# Altium footprint library FPGA_PMU_lib.PcbLib: 15 footprints
Each footprint in its own frame and in the unit in brackets; x right, y up, seen from the top. Pads: shape width x height; smd on the part's side, far side on the other; paste and mask are expansions set on the pad; w line width, h text height; cw(c..) or ccw(c..) is an arc to the next point about the centre after c.
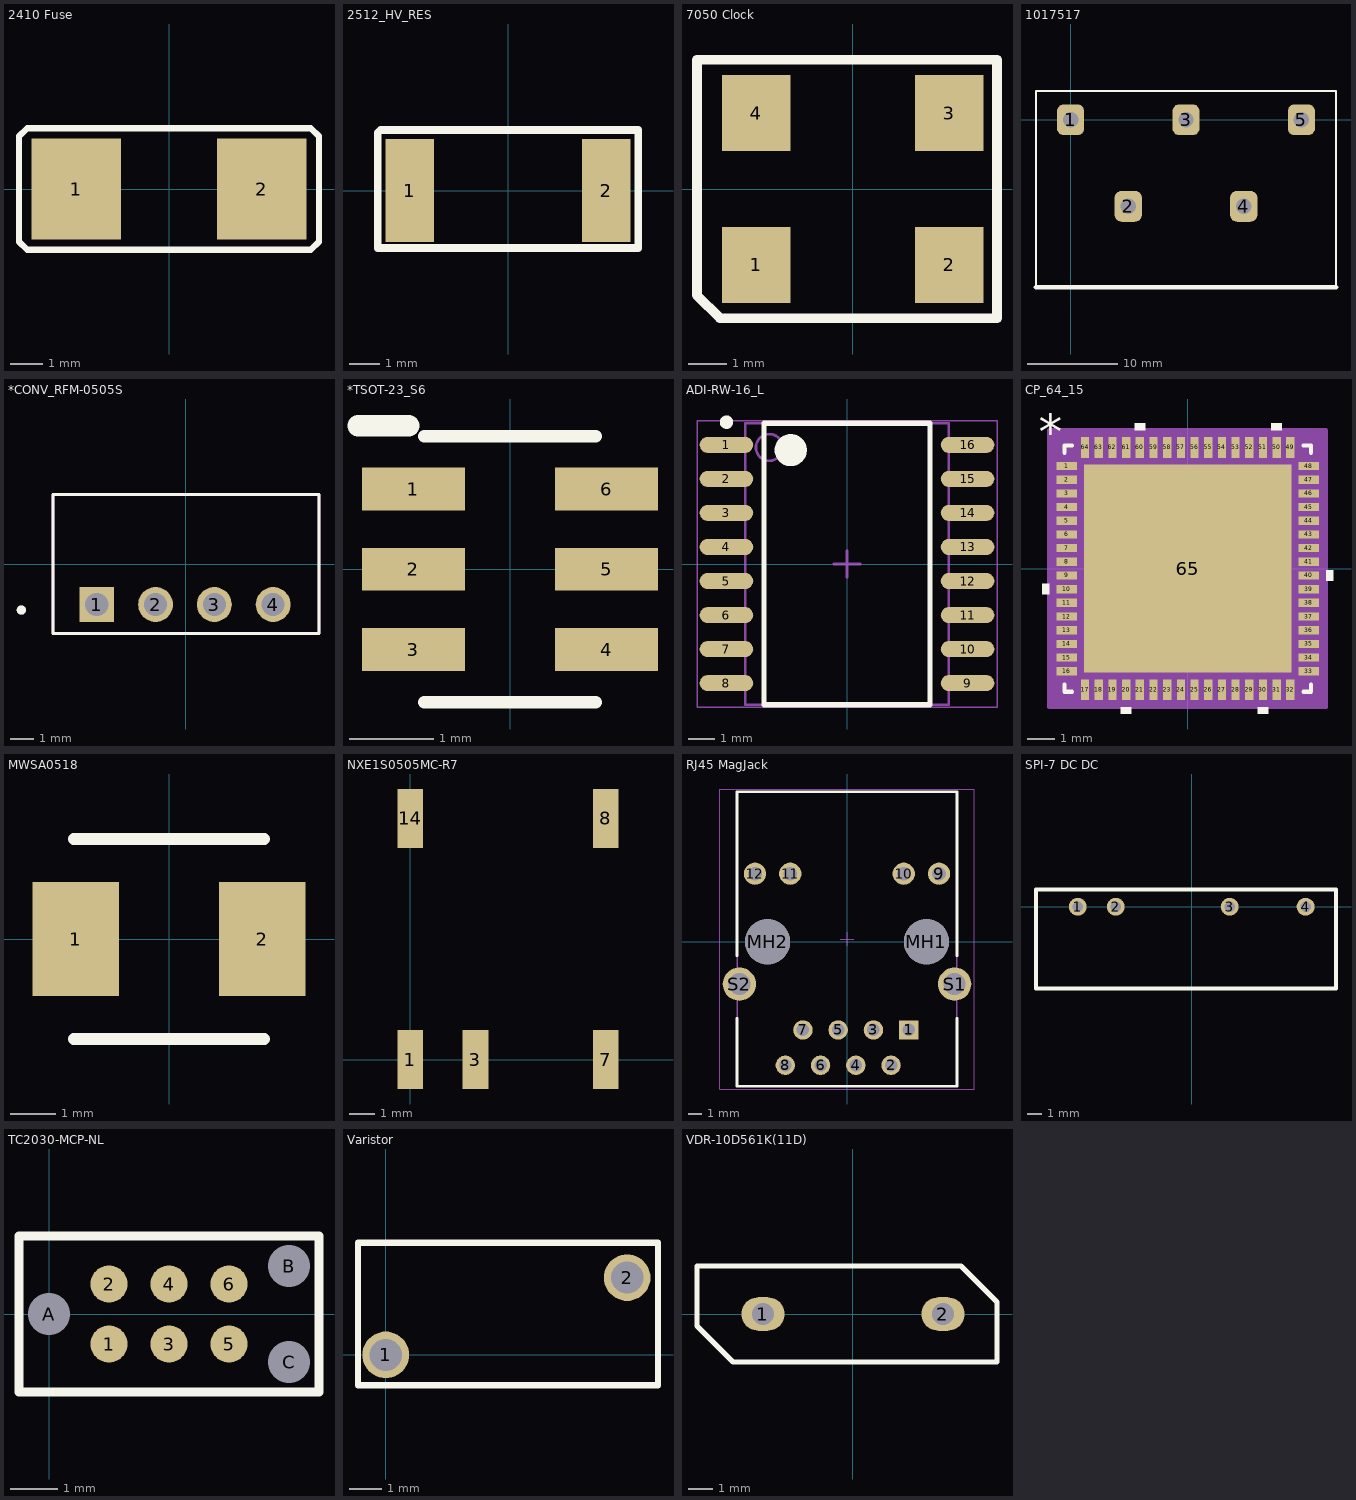
[diagram p0: the footprints below, top view; thin cyan lines are the x and y axes]

## 2410 Fuse [mm]
pads (2):
  rect 2.8x3.15 smd: 1(-2.9,0) 2(2.9,0)
Top Overlay:
  lines w0.2: -4.699,-1.651 -4.445,-1.905 4.445,-1.905 4.699,-1.651 4.699,1.651 4.445,1.905 -4.445,1.905 -4.699,1.651 -4.699,-1.651
3D body "0679H0500-xx.step": height 2.58, standoff 0.04, extent -3.05,-1.27 3.05,1.27

## 2512_HV_RES [mm]
pads (2):
  rect 1.6x3.4 smd: 1(-3.25,0) 2(3.25,0)
Top Overlay:
  lines w0.254: -4.3,-1.9 -4.3,1.9 -4.2,2 4.3,2 4.3,-1.9 -4.3,-1.9
3D body "User Library-R SMD 2512.STEP": height 0.67, standoff 0.07, extent -3.131,-1.577 3.169,1.573

## 7050 Clock [mm]
pads (4):
  rect 1.8x2 smd: 1(-2.54,-2) 2(2.54,-2) 3(2.54,2) 4(-2.54,2)
Top Overlay:
  lines w0.254: -4.1,-2.8 -4.1,3.4 -3.7,3.4 3.8,3.4 3.8,-3.4 -3.5,-3.4 -4.1,-2.8
3D body "SG7050.stp": height 1.3, standoff 0, extent -3.5,-2.55 3.5,2.55

## 1017517 [mm] "PCB terminal block"
pads (5):
  rrect50% 3x3.4 hole 1.7 unplated: 1(0,0) 2(6.35,-9.525) 3(12.7,0) 4(19.05,-9.525) 5(25.4,0)
Top Overlay:
  lines w0.254: -3.81,-18.415 -3.81,3.175 29.21,3.175 29.21,-18.415
  lines w0.5: -3.81,-18.415 29.21,-18.415
3D body "pxc_1017517_00_TDPT-4-5-SC-6-35-ZB_3D.stp": height 23.4, standoff -3.5, extent -3.575,-18.075 28.975,2.675

## *CONV_RFM-0505S [mm]
pads (4):
  rect 1.508x1.508 hole 1: 1(-3.85,-1.75)
  round 1.508 hole 1: 2(-1.31,-1.75) 3(1.23,-1.75) 4(3.77,-1.75)
Top Overlay:
  circle w0.2: c-7.11,-1.99 r0.1
  lines w0.127: -5.75,-3 -5.75,3 5.75,3 5.75,-3 -5.75,-3
Mechanical 4:
  circle w0.2: c-7.1,-1.99 r0.1
  circle w0.2: c-7.1,-1.99 r0.1
  lines w0.127: -5.75,-3 -5.75,3 ; -5.75,-3 5.75,-3 ; -5.75,-3 -5.75,3 ; -5.75,-3 5.75,-3 ; -5.75,3 5.75,3 ; -5.75,3 5.75,3 ; 5.75,-3 5.75,3 ; 5.75,-3 5.75,3
3D body: height 10, standoff 0, extent -5.75,-3 5.75,3

## *TSOT-23_S6 [mil]
pads (6):
  rect 48x20 smd: 1(-45,37.4) 2(-45,0) 3(-45,-37.4) 4(45,-37.4) 5(45,0) 6(45,37.4)
Top Overlay:
  lines w6: -40,-62 40,-62 ; -40,62 40,62
  lines w10: -70.87,66.93 -47.24,66.93 -70.87,66.93
3D body "User Library-SOT-23-6.step": height 43, standoff 0, extent -47.24,-55 48.26,55

## ADI-RW-16_L [mm] "SOIC, 16-Leads, Body 10.3x7.5mm, Pitch 1.27mm, IPC High Density"
height 2.65
pads (16):
  oval 2x0.6 smd: 1(-4.5,4.445) 2(-4.5,3.175) 3(-4.5,1.905) 4(-4.5,0.635) 5(-4.5,-0.635) 6(-4.5,-1.905) 7(-4.5,-3.175) 8(-4.5,-4.445) 9(4.5,-4.445) 10(4.5,-3.175) 11(4.5,-1.905) 12(4.5,-0.635) 13(4.5,0.635) 14(4.5,1.905) 15(4.5,3.175) 16(4.5,4.445)
Top Overlay:
  circle w0.25: c-4.5,5.295 r0.125
  circle w0.6: c-2.1,4.25 r0.3
  lines w0.2: -3.1,-5.25 -3.1,5.25 3.1,5.25 3.1,-5.25 -3.1,-5.25
Mechanical 13:
  circle w0.1: c-2.9,4.35 r0.5
  lines w0.1: -3.8,-5.25 -3.8,5.25 3.8,5.25 3.8,-5.25 -3.8,-5.25
Mechanical 15:
  lines w0.05: -5.6,-5.35 -5.6,5.35 5.6,5.35 5.6,-5.35 -5.6,-5.35
  lines w0.1: -0.5,0 0.5,0 ; 0,-0.5 0,0.5
3D body: height 2.65, standoff 0.1, extent -3.8,-5.25 3.8,5.25

## CP_64_15 [mm]
height 0.55
pads (65):
  rect 0.755x0.3 smd: 1(-4.427,3.75) 2(-4.427,3.25) 3(-4.427,2.75) 4(-4.427,2.25) 5(-4.427,1.75) 6(-4.427,1.25) 7(-4.427,0.75) 8(-4.427,0.25) 9(-4.427,-0.25) 10(-4.427,-0.75) 11(-4.427,-1.25) 12(-4.427,-1.75) 13(-4.427,-2.25) 14(-4.427,-2.75) 15(-4.427,-3.25) 16(-4.427,-3.75) 33(4.427,-3.75) 34(4.427,-3.25) 35(4.427,-2.75) 36(4.427,-2.25) 37(4.427,-1.75) 38(4.427,-1.25) 39(4.427,-0.75) 40(4.427,-0.25) 41(4.427,0.25) 42(4.427,0.75) 43(4.427,1.25) 44(4.427,1.75) 45(4.427,2.25) 46(4.427,2.75) 47(4.427,3.25) 48(4.427,3.75)
  rect 0.3x0.755 smd: 17(-3.75,-4.427) 18(-3.25,-4.427) 19(-2.75,-4.427) 20(-2.25,-4.427) 21(-1.75,-4.427) 22(-1.25,-4.427) 23(-0.75,-4.427) 24(-0.25,-4.427) 25(0.25,-4.427) 26(0.75,-4.427) 27(1.25,-4.427) 28(1.75,-4.427) 29(2.25,-4.427) 30(2.75,-4.427) 31(3.25,-4.427) 32(3.75,-4.427) 49(3.75,4.427) 50(3.25,4.427) 51(2.75,4.427) 52(2.25,4.427) 53(1.75,4.427) 54(1.25,4.427) 55(0.75,4.427) 56(0.25,4.427) 57(-0.25,4.427) 58(-0.75,4.427) 59(-1.25,4.427) 60(-1.75,4.427) 61(-2.25,4.427) 62(-2.75,4.427) 63(-3.25,4.427) 64(-3.75,4.427)
  rect 7.6x7.6 smd paste-3.787: 65(0,0)
Top Overlay:
  region: -5.059,-0.56 -5.313,-0.56 -5.313,-0.941 -5.059,-0.941
  region: -2.06,-5.059 -2.441,-5.059 -2.441,-5.313 -2.06,-5.313
  region: 2.94,-5.059 2.559,-5.059 2.559,-5.313 2.94,-5.313
  region: 5.059,-0.059 5.313,-0.059 5.313,-0.44 5.059,-0.44
  region: 3.441,5.059 3.06,5.059 3.06,5.313 3.441,5.313
  region: -1.559,5.059 -1.94,5.059 -1.94,5.313 -1.559,5.313
  lines w0.152: -4.5,-4.233 -4.5,-4.5 -4.233,-4.5 ; -4.5,4.233 -4.5,4.5 -4.233,4.5 ; 4.233,-4.5 4.5,-4.5 4.5,-4.233 ; 4.233,4.5 4.5,4.5 4.5,4.233
  text "*" at -5.44,4.381 h1.27
Top Paste:
  region: -2.38,3.7 -3.7,3.7 -3.7,2.38 -2.38,2.38
  region: -2.38,2.18 -3.7,2.18 -3.7,0.86 -2.38,0.86
  region: -2.38,0.66 -3.7,0.66 -3.7,-0.66 -2.38,-0.66
  region: -2.38,-0.86 -3.7,-0.86 -3.7,-2.18 -2.38,-2.18
  region: -2.38,-2.38 -3.7,-2.38 -3.7,-3.7 -2.38,-3.7
  region: -0.86,3.7 -2.18,3.7 -2.18,2.38 -0.86,2.38
  region: -0.86,2.18 -2.18,2.18 -2.18,0.86 -0.86,0.86
  region: -0.86,0.66 -2.18,0.66 -2.18,-0.66 -0.86,-0.66
  region: -0.86,-0.86 -2.18,-0.86 -2.18,-2.18 -0.86,-2.18
  region: -0.86,-2.38 -2.18,-2.38 -2.18,-3.7 -0.86,-3.7
  region: 0.66,3.7 -0.66,3.7 -0.66,2.38 0.66,2.38
  region: 0.66,2.18 -0.66,2.18 -0.66,0.86 0.66,0.86
  region: 0.66,0.66 -0.66,0.66 -0.66,-0.66 0.66,-0.66
  region: 0.66,-0.86 -0.66,-0.86 -0.66,-2.18 0.66,-2.18
  region: 0.66,-2.38 -0.66,-2.38 -0.66,-3.7 0.66,-3.7
  region: 2.18,3.7 0.86,3.7 0.86,2.38 2.18,2.38
  region: 2.18,2.18 0.86,2.18 0.86,0.86 2.18,0.86
  region: 2.18,0.66 0.86,0.66 0.86,-0.66 2.18,-0.66
  region: 2.18,-0.86 0.86,-0.86 0.86,-2.18 2.18,-2.18
  region: 2.18,-2.38 0.86,-2.38 0.86,-3.7 2.18,-3.7
  region: 3.7,3.7 2.38,3.7 2.38,2.38 3.7,2.38
  region: 3.7,2.18 2.38,2.18 2.38,0.86 3.7,0.86
  region: 3.7,0.66 2.38,0.66 2.38,-0.66 3.7,-0.66
  region: 3.7,-0.86 2.38,-0.86 2.38,-2.18 3.7,-2.18
  region: 3.7,-2.38 2.38,-2.38 2.38,-3.7 3.7,-3.7
Mechanical 13:
  text "*" at -5.44,4.381 h1.27
Mechanical 15:
  region: 5.059,-5.059 -5.059,-5.059 -5.059,5.059 5.059,5.059
  lines w0.152: -5.059,-5.059 -5.059,5.059 5.059,5.059 5.059,-5.059 -5.059,-5.059
3D body: height 0.25, standoff 0, extent 0,0 0.254,0.254

## MWSA0518 [mm]
pads (2):
  rect 1.9x2.5 smd: 1(-2.05,0) 2(2.05,0)
Top Overlay:
  lines w0.254: -2.1,-2.2 2.1,-2.2 ; -2.1,2.2 2.1,2.2
3D body: height 1.8, standoff 0, extent -2.1,-2.2 2.1,2.2

## NXE1S0505MC-R7 [mm] "Murata DC DC"
pads (5):
  rect 1x2.3 smd: 1(0,0) 3(2.54,0) 7(7.62,0) 8(7.62,9.398) 14(0,9.398)
3D body "mps_dcdc_nxe_a.step": height 4.48, standoff -0.01, extent -2.54,-0.381 10.16,10.033

## RJ45 MagJack [mm] "Modular Jack Horizontal Shielded 8P8C Tab Down"
height 13.65
pads (16):
  rect 1.4x1.4 hole 0.9: 1(4.445,-6.35)
  round 1.4 hole 0.9: 2(3.175,-8.89) 3(1.905,-6.35) 4(0.635,-8.89) 5(-0.635,-6.35) 6(-1.905,-8.89) 7(-3.175,-6.35) 8(-4.445,-8.89)
  round 1.6 hole 1: 9(6.625,4.9) 10(4.085,4.9) 11(-4.085,4.9) 12(-6.625,4.9)
  round 3.25 hole 3.25 unplated: MH1(5.715,0) MH2(-5.715,0)
  round 2.4 hole 1.6: S1(7.75,-3.05) S2(-7.75,-3.05)
Top Overlay:
  lines w0.2: -7.92,-5.5 -7.92,-10.4 7.92,-10.4 7.92,-5.5 ; -7.92,-1 -7.92,10.8 7.92,10.8 7.92,-1
Mechanical 13:
  lines w0.1: -7.92,-10.4 -7.92,10.8 7.92,10.8 7.92,-10.4 -7.92,-10.4
Mechanical 15:
  lines w0.05: -0.5,0.2 0.5,0.2 ; 0,-0.3 0,0.7 ; -9.15,-10.6 -9.15,11 9.15,11 9.15,-10.6 -9.15,-10.6
3D body "61500814221 (rev1).stp": height 13.7, standoff -3.9, extent -7.9,-10.4 7.9,10.8

## SPI-7 DC DC [mm]
pads (4):
  round 1.2 hole 0.7 unplated: 1(-7.62,0) 2(-5.08,0) 3(2.54,0) 4(7.62,0)
Top Overlay:
  lines w0.254: -10.414,-5.461 9.652,-5.461 9.652,1.143 -10.414,1.143 -10.414,-5.461
3D body "User Library-dc_to_dc_converter.step": height 10.1, standoff -3.7, extent -10.16,-5.2 9.44,0.9

## TC2030-MCP-NL [mil]
pads (9):
  round 31 smd: 1(50,-25) 2(50,25) 3(100,-25) 4(100,25) 5(150,-25) 6(150,25)
  round 34 hole 35 unplated: A(0,0) B(200,40) C(200,-40)
Top Overlay:
  lines w7.87: -25,-65 -25,65 225,65 225,-65 -25,-65

## Varistor [mm] "Varistor (Voltage-Sensitive Resistor)"
height 14.5
pads (2):
  round 1.45 hole 1: 1(0,0) 2(7.5,2.4)
Top Overlay:
  lines w0.2: -0.864,-0.94 8.458,-0.94 8.458,3.48 -0.864,3.48 -0.864,-0.94
3D body "Varistor.STEP": height 16.4, standoff -1, extent -3.724,-2.405 11.365,4.983

## VDR-10D561K(11D) [mm]
pads (2):
  oval 1.8x1.4 hole 0.9: 1(-3.75,0) 2(3.75,0)
Top Overlay:
  lines w0.2: -6.5,-0.5 -6.5,1.5 -6.5,2 -6,2 4.5,2 6,0.5 6,-2 -5,-2 -6.5,-0.5
3D body "User Library-final MOV7,5.step": height 16.5, standoff -2, extent -5.862,-1.426 5.557,1.402